# EAGLE library part STUSB4710AQ1TR (library STUSB4710)
STUSB4710AQ1TR Autonomous USB PD controller with integrated discharge path
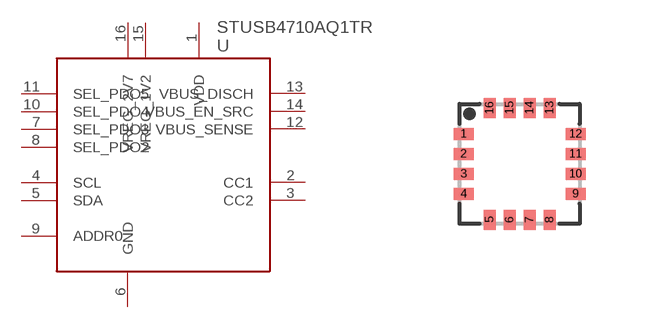
[diagram p1: symbol with the pads of QFN16; footprint QFN16]

Designator prefix -

## STUSB4710AQ1TR  [QFN16]
1  VDD
2  CC1
3  CC2
4  SCL
5  SDA
6  GND
7  SEL_PDO3
8  SEL_PDO2
9  ADDR0
10  SEL_PDO4
11  SEL_PDO5
12  VBUS_SENSE
13  VBUS_DISCH
14  VBUS_EN_SRC
15  VREG_1V2
16  VREG_2V7

## Footprint QFN16 (pad centres in mm)
smd 0.5 x 0.3: 1 -1.4,0.75; 2 -1.4,0.25; 3 -1.4,-0.25; 4 -1.4,-0.75; 9 1.4,-0.75; 10 1.4,-0.25; 11 1.4,0.25; 12 1.4,0.75
smd 0.3 x 0.5: 5 -0.75,-1.4; 6 -0.25,-1.4; 7 0.25,-1.4; 8 0.75,-1.4; 13 0.75,1.4; 14 0.25,1.4; 15 -0.25,1.4; 16 -0.75,1.4